# Altium footprint library NuM487_DEVB.PcbLib: 23 footprints (part 1 of 2)
Each footprint in its own frame and in the unit in brackets; x right, y up, seen from the top. Pads: shape width x height; smd on the part's side, far side on the other; paste and mask are expansions set on the pad; w line width, h text height; cw(c..) or ccw(c..) is an arc to the next point about the centre after c.
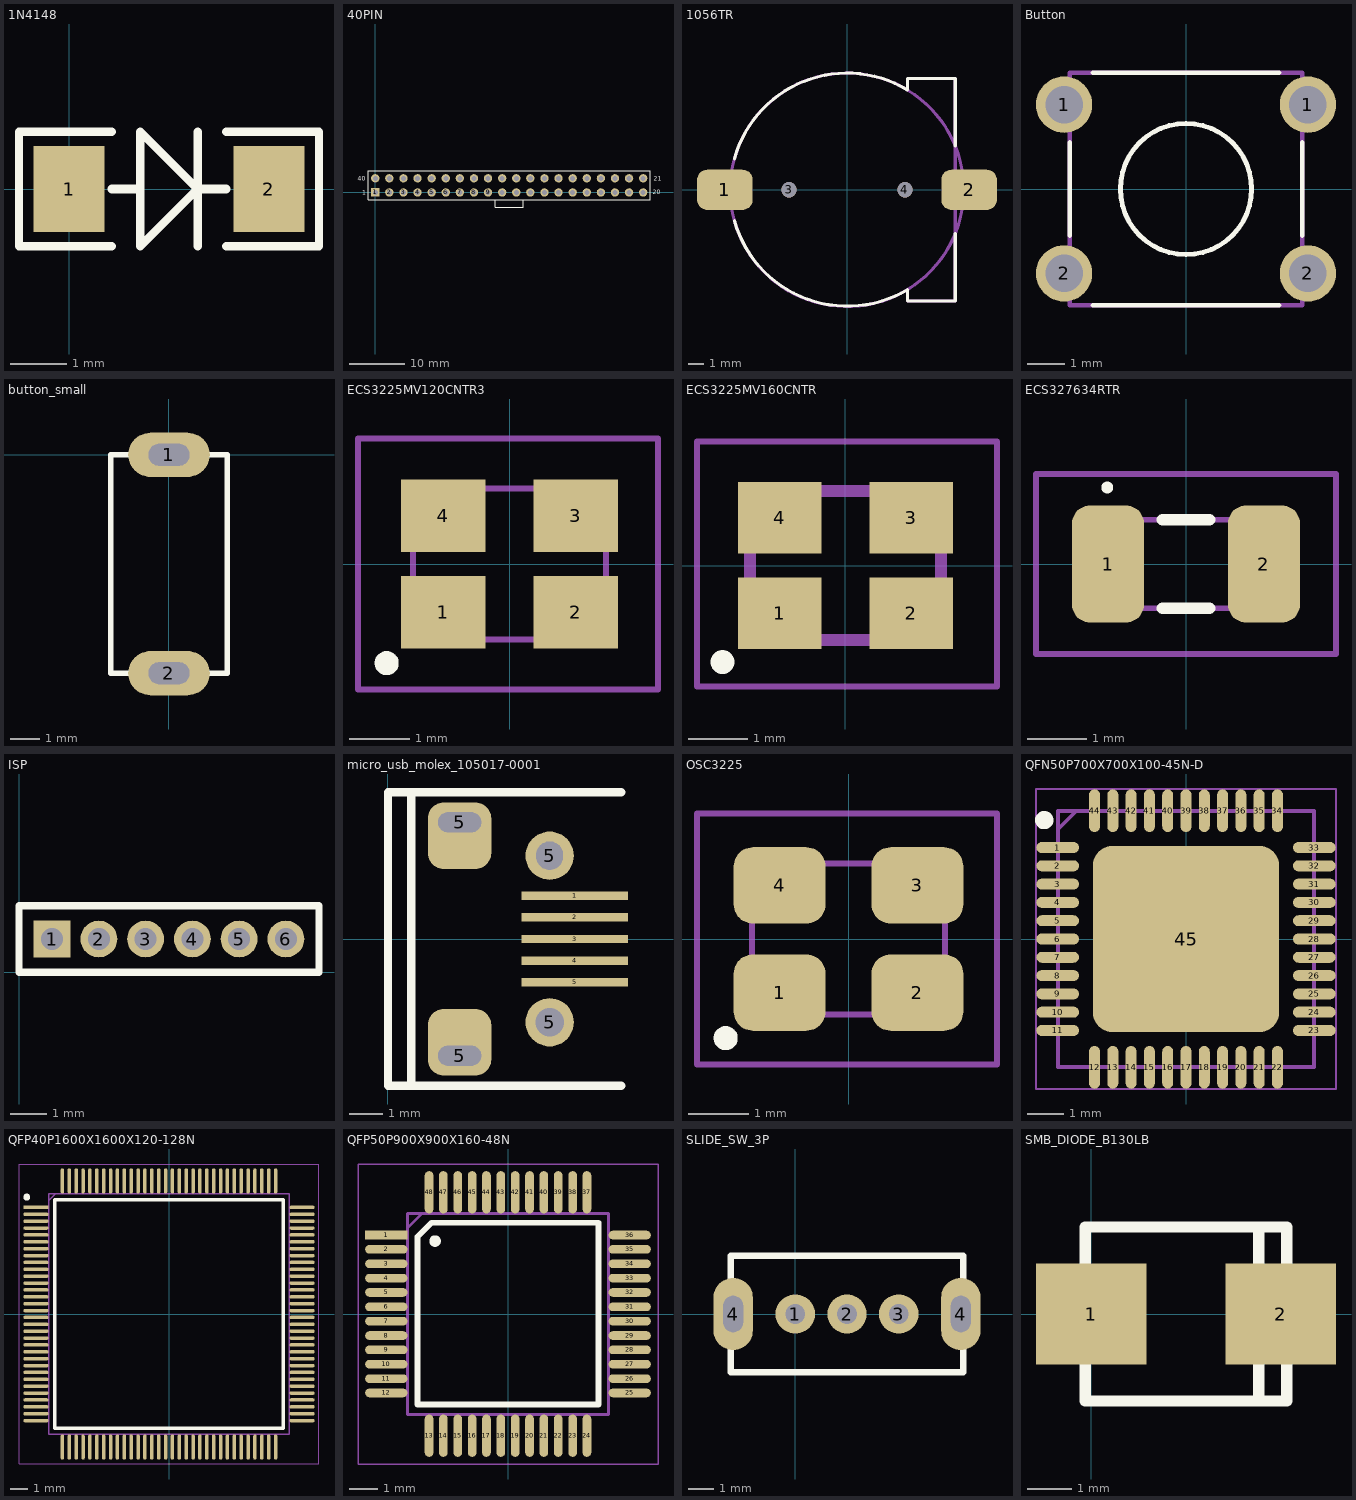
[diagram p0: the footprints below, top view; thin cyan lines are the x and y axes]

## 1N4148 [mil]
pads (2):
  rect 50x60 smd: 1(0,0) 2(140,0)
Top Overlay:
  lines w5.91: 30,-40 -35,-40 -35,40 30,40 ; 110,-40 175,-40 175,40 110,40
  lines w6: 30,0 50,0 ; 90,-40 90,40 ; 110,0 90,0 ; 90,0 50,-40 50,40 90,0
3D body "SOD-80C.STEP": height 63.13, standoff -0.14, extent -1.96,-31.63 143.71,31.64

## 40PIN [mm]
pads (40):
  rect 1.5x1.5 hole 0.9: 1(0,0)
  round 1.5 hole 0.9: 2(2.54,0) 3(5.08,0) 4(7.62,0) 5(10.16,0) 6(12.7,0) 7(15.24,0) 8(17.78,0) 9(20.32,0) 10(22.86,0) 11(25.4,0) 12(27.94,0) 13(30.48,0) 14(33.02,0) 15(35.56,0) 16(38.1,0) 17(40.64,0) 18(43.18,0) 19(45.72,0) 20(48.26,0) 21(48.26,2.54) 22(45.72,2.54) 23(43.18,2.54) 24(40.64,2.54) 25(38.1,2.54) 26(35.56,2.54) 27(33.02,2.54) 28(30.48,2.54) 29(27.94,2.54) 30(25.4,2.54) 31(22.86,2.54) 32(20.32,2.54) 33(17.78,2.54) 34(15.24,2.54) 35(12.7,2.54) 36(10.16,2.54) 37(7.62,2.54) 38(5.08,2.54) 39(2.54,2.54) 40(0,2.54)
Top Overlay:
  lines w0.2: -1.27,0.635 -1.27,3.872 ; -1.27,1.905 -1.27,-1.35 49.53,-1.35 49.53,3.872 ; -1.27,3.89 49.53,3.89 ; 21.569,-1.384 21.569,-2.661 26.62,-2.661 26.62,-1.373
  text "21" at 50.128,2.14 h0.8
  text "20" at 49.985,-0.368 h0.8
  text "1" at -2.353,-0.413 h0.8
  text "40" at -3.111,2.057 h0.8
3D body "20x2_Male_Pin_Header.STEP": height 9, standoff 0, extent -1.172,-1.25 49.628,3.75

## 1056TR [mm]
pads (4):
  rrect50% 3.6x2.6 smd: 1(-7.9,0) 2(7.9,0)
  round 1 hole 1 unplated: 3(-3.75,0) 4(3.75,0)
Top Overlay:
  lines w0.2: -7.279,-2.005 ccw(c0.025,0.062) 3.911,-6.458 ; -7.279,2.005 cw(c0,0) 3.911,6.458 ; 3.909,-6.438 3.909,-7.2 7,-7.2 7,-2.829 ; 3.909,6.459 3.909,7.2 7,7.2 7,2.829
Mechanical 13:
  circle w0.2: c0,0 r7.55
  lines w0.2: 3.909,-6.438 3.909,-7.2 7,-7.2 7,7.2 3.909,7.2 3.909,6.439

## Button [mm] "6*6mm vertical type, THT, height 5.0mm, white actuator, 260gf, Bulk"
height 5
pads (4):
  round 1.5 hole 1: 1(-3.25,2.25) 1(3.25,2.25) 2(-3.25,-2.25) 2(3.25,-2.25)
Top Overlay:
  circle w0.127: c0,0 r1.75
  lines w0.127: -3.1,-1.24 -3.1,1.24 ; -2.48,-3.1 2.48,-3.1 ; -2.48,3.1 2.48,3.1 ; 3.1,-1.24 3.1,1.24
Mechanical 13:
  lines w0.127: -3.1,-3.1 3.1,-3.1 3.1,3.1 -3.1,3.1 -3.1,-3.1
3D body "4301x60507x6.stp": height 5, standoff -3.49, extent -3.947,-3.1 3.947,3.1

## button_small [mil]
pads (2):
  oval 110.24x60 hole 30 slot 55.12 at 0 deg: 1(0,0) 2(0,-295.28)
Top Overlay:
  lines w7.87: -78.74,-295.28 -78.74,0 78.76,0 78.74,-295.28 -78.74,-295.28

## ECS3225MV120CNTR3 [mm]
pads (4):
  rect 1.4x1.2 smd: 1(-1.1,-0.8) 2(1.1,-0.8) 3(1.1,0.8) 4(-1.1,0.8)
Top Overlay:
  lines w0.2: -2.038,-1.745 ccw(c-2.038,-1.645) -2.038,-1.545 ccw(c-2.038,-1.645) -2.038,-1.745
Mechanical 13:
  lines w0.1: -1.6,-1.25 1.6,-1.25 1.6,1.25 -1.6,1.25 -1.6,-1.25
Mechanical 15:
  lines w0.1: -2.515,-2.083 2.464,-2.083 2.464,2.083 -2.515,2.083 -2.515,-2.083
3D body "ECS-3225MV-120-CN-TR3.stp": height 1.3, standoff 0, extent -1.68,-1.28 1.68,1.28

## ECS3225MV160CNTR [mm]
pads (4):
  rect 1.4x1.2 smd: 1(-1.1,-0.8) 2(1.1,-0.8) 3(1.1,0.8) 4(-1.1,0.8)
Top Overlay:
  lines w0.2: -2.162,-1.619 ccw(c-2.062,-1.619) -1.962,-1.619 ccw(c-2.062,-1.619) -2.162,-1.619
Mechanical 13:
  lines w0.2: -1.6,-1.25 1.6,-1.25 1.6,1.25 -1.6,1.25 -1.6,-1.25
Mechanical 15:
  lines w0.1: -2.489,-2.032 2.54,-2.032 2.54,2.083 -2.489,2.083 -2.489,-2.032
3D body "ECS-3225MV-160-CN-TR.stp": height 1.3, standoff 0, extent -1.68,-1.28 1.68,1.28

## ECS327634RTR [mil]
pads (2):
  rrect50% 48x78 smd: 1(-52,0) 2(52,0)
Top Overlay:
  lines w3.94: -54.49,51 ccw(c-52.52,51) -50.55,51 ccw(c-52.52,51) -54.49,51
  lines w7.87: -15.75,-29.53 15.75,-29.53 ; -15.75,29.53 15.75,29.53
Mechanical 13:
  lines w3.94: -62.99,-29.53 62.99,-29.53 62.99,29.53 -62.99,29.53 -62.99,-29.53
Mechanical 15:
  lines w3.94: -100,-60 100,-60 100,60 -100,60 -100,-60

## ISP [mm]
pads (6):
  rect 1x1 hole 0.6: 1(0.9,0.9)
  round 1 hole 0.6: 2(2.17,0.9) 3(3.44,0.9) 4(4.71,0.9) 5(5.98,0.9) 6(7.25,0.9)
Top Overlay:
  lines w0.2: 0,0 8.15,0 8.15,1.8 0,1.8 0,0

## micro_usb_molex_105017-0001 [mm]
pads (9):
  rect 3.2x0.25 smd: 1(5.6,1.3) 2(5.6,0.65) 3(5.6,0) 4(5.6,-0.65) 5(5.6,-1.3)
  rrect50% 1.9x2 hole 0.6 slot 1.3 at 0 deg copper offset 0,0.4: 5(2.15,-3.5)
  rrect50% 1.9x2 hole 0.6 slot 1.3 at 0 deg copper offset 0,-0.4: 5(2.15,3.5)
  round 1.45 hole 0.85: 5(4.85,-2.5)
  round 1.45 hole 0.85 slot 0.8 at 0 deg: 5(4.85,2.5)
Top Overlay:
  lines w0.254: 0.7,-4.4 0.7,4.4 ; 7,-4.4 0,-4.4 0,0 0,4.4 7,4.4
3D body "1050170001.stp": height 2.78, standoff -0.53, extent -0.45,-4.1 4.95,4.1

## OSC3225 [mil]
pads (4):
  rrect50% 60x50 smd: 1(-45,-35) 2(45,-35) 3(45,35) 4(-45,35)
Top Overlay:
  lines w7.87: -80.24,-68.71 cw(c-80.24,-64.77) -80.24,-60.83 cw(c-80.24,-64.77) -80.24,-68.71
Mechanical 13:
  lines w3.94: -62.99,-49.21 -62.99,49.21 62.99,49.21 62.99,-49.21 -62.99,-49.21
Mechanical 15:
  lines w3.94: -99,-82 -99,82 97,82 97,-82 -99,-82
3D body "ECS-3225MV-120-CN-TR3.stp": height 51.18, standoff 0, extent -66.14,-50.39 66.14,50.39

## QFN50P700X700X100-45N-D [mm]
pads (45):
  oval 1.168x0.3 smd: 1(-3.509,2.5) 2(-3.509,2) 3(-3.509,1.5) 4(-3.509,1) 5(-3.509,0.5) 6(-3.509,0) 7(-3.509,-0.5) 8(-3.509,-1) 9(-3.509,-1.5) 10(-3.509,-2) 11(-3.509,-2.5) 23(3.509,-2.5) 24(3.509,-2) 25(3.509,-1.5) 26(3.509,-1) 27(3.509,-0.5) 28(3.509,0) 29(3.509,0.5) 30(3.509,1) 31(3.509,1.5) 32(3.509,2) 33(3.509,2.5)
  oval 0.3x1.168 smd: 12(-2.5,-3.509) 13(-2,-3.509) 14(-1.5,-3.509) 15(-1,-3.509) 16(-0.5,-3.509) 17(0,-3.509) 18(0.5,-3.509) 19(1,-3.509) 20(1.5,-3.509) 21(2,-3.509) 22(2.5,-3.509) 34(2.5,3.509) 35(2,3.509) 36(1.5,3.509) 37(1,3.509) 38(0.5,3.509) 39(0,3.509) 40(-0.5,3.509) 41(-1,3.509) 42(-1.5,3.509) 43(-2,3.509) 44(-2.5,3.509)
  rrect20% 5.08x5.08 smd: 45(0,0)
Top Overlay:
  circle w0.25: c-3.875,3.25 r0.125
Mechanical 13:
  lines w0.1: -3.5,3 -3,3.5 ; -3.5,-3.5 3.5,-3.5 3.5,3.5 -3.5,3.5 -3.5,-3.5
Mechanical 15:
  lines w0.05: -4.1,-4.1 4.1,-4.1 4.1,4.1 -4.1,4.1 -4.1,-4.1
3D body "ATMEGA16U4-MU.stp": height 1, standoff 0, extent -3.55,-3.55 3.55,3.55

## QFP40P1600X1600X120-128N [mm]
pads (128):
  rect 1.475x0.2 smd: 1(-7.738,6.2)
  oval 1.475x0.2 smd: 2(-7.738,5.8) 3(-7.738,5.4) 4(-7.738,5) 5(-7.738,4.6) 6(-7.738,4.2) 7(-7.738,3.8) 8(-7.738,3.4) 9(-7.738,3) 10(-7.738,2.6) 11(-7.738,2.2) 12(-7.738,1.8) 13(-7.738,1.4) 14(-7.738,1) 15(-7.738,0.6) 16(-7.738,0.2) 17(-7.738,-0.2) 18(-7.738,-0.6) 19(-7.738,-1) 20(-7.738,-1.4) 21(-7.738,-1.8) 22(-7.738,-2.2) 23(-7.738,-2.6) 24(-7.738,-3) 25(-7.738,-3.4) 26(-7.738,-3.8) 27(-7.738,-4.2) 28(-7.738,-4.6) 29(-7.738,-5) 30(-7.738,-5.4) 31(-7.738,-5.8) 32(-7.738,-6.2) 65(7.738,-6.2) 66(7.738,-5.8) 67(7.738,-5.4) 68(7.738,-5) 69(7.738,-4.6) 70(7.738,-4.2) 71(7.738,-3.8) 72(7.738,-3.4) 73(7.738,-3) 74(7.738,-2.6) 75(7.738,-2.2) 76(7.738,-1.8) 77(7.738,-1.4) 78(7.738,-1) 79(7.738,-0.6) 80(7.738,-0.2) 81(7.738,0.2) 82(7.738,0.6) 83(7.738,1) 84(7.738,1.4) 85(7.738,1.8) 86(7.738,2.2) 87(7.738,2.6) 88(7.738,3) 89(7.738,3.4) 90(7.738,3.8) 91(7.738,4.2) 92(7.738,4.6) 93(7.738,5) 94(7.738,5.4) 95(7.738,5.8) 96(7.738,6.2)
  oval 0.2x1.475 smd: 33(-6.2,-7.738) 34(-5.8,-7.738) 35(-5.4,-7.738) 36(-5,-7.738) 37(-4.6,-7.738) 38(-4.2,-7.738) 39(-3.8,-7.738) 40(-3.4,-7.738) 41(-3,-7.738) 42(-2.6,-7.738) 43(-2.2,-7.738) 44(-1.8,-7.738) 45(-1.4,-7.738) 46(-1,-7.738) 47(-0.6,-7.738) 48(-0.2,-7.738) 49(0.2,-7.738) 50(0.6,-7.738) 51(1,-7.738) 52(1.4,-7.738) 53(1.8,-7.738) 54(2.2,-7.738) 55(2.6,-7.738) 56(3,-7.738) 57(3.4,-7.738) 58(3.8,-7.738) 59(4.2,-7.738) 60(4.6,-7.738) 61(5,-7.738) 62(5.4,-7.738) 63(5.8,-7.738) 64(6.2,-7.738) 97(6.2,7.738) 98(5.8,7.738) 99(5.4,7.738) 100(5,7.738) 101(4.6,7.738) 102(4.2,7.738) 103(3.8,7.738) 104(3.4,7.738) 105(3,7.738) 106(2.6,7.738) 107(2.2,7.738) 108(1.8,7.738) 109(1.4,7.738) 110(1,7.738) 111(0.6,7.738) 112(0.2,7.738) 113(-0.2,7.738) 114(-0.6,7.738) 115(-1,7.738) 116(-1.4,7.738) 117(-1.8,7.738) 118(-2.2,7.738) 119(-2.6,7.738) 120(-3,7.738) 121(-3.4,7.738) 122(-3.8,7.738) 123(-4.2,7.738) 124(-4.6,7.738) 125(-5,7.738) 126(-5.4,7.738) 127(-5.8,7.738) 128(-6.2,7.738)
Top Overlay:
  circle w0.2: c-8.275,6.8 r0.1
  lines w0.2: -6.65,-6.65 6.65,-6.65 6.65,6.65 -6.65,6.65 -6.65,-6.65
Mechanical 13:
  lines w0.1: -7,6.6 -6.6,7 ; -7,-7 7,-7 7,7 -7,7 -7,-7
Mechanical 15:
  lines w0.05: -8.725,-8.725 8.725,-8.725 8.725,8.725 -8.725,8.725 -8.725,-8.725
3D body "ATSAME54P20A-AF.stp": height 1.2, standoff 0, extent -8,-8 8,8

## QFP50P900X900X160-48N [mm]
pads (48):
  rect 1.475x0.3 smd: 1(-4.238,2.75)
  oval 1.475x0.3 smd: 2(-4.238,2.25) 3(-4.238,1.75) 4(-4.238,1.25) 5(-4.238,0.75) 6(-4.238,0.25) 7(-4.238,-0.25) 8(-4.238,-0.75) 9(-4.238,-1.25) 10(-4.238,-1.75) 11(-4.238,-2.25) 12(-4.238,-2.75) 25(4.238,-2.75) 26(4.238,-2.25) 27(4.238,-1.75) 28(4.238,-1.25) 29(4.238,-0.75) 30(4.238,-0.25) 31(4.238,0.25) 32(4.238,0.75) 33(4.238,1.25) 34(4.238,1.75) 35(4.238,2.25) 36(4.238,2.75)
  oval 0.3x1.475 smd: 13(-2.75,-4.238) 14(-2.25,-4.238) 15(-1.75,-4.238) 16(-1.25,-4.238) 17(-0.75,-4.238) 18(-0.25,-4.238) 19(0.25,-4.238) 20(0.75,-4.238) 21(1.25,-4.238) 22(1.75,-4.238) 23(2.25,-4.238) 24(2.75,-4.238) 37(2.75,4.238) 38(2.25,4.238) 39(1.75,4.238) 40(1.25,4.238) 41(0.75,4.238) 42(0.25,4.238) 43(-0.25,4.238) 44(-0.75,4.238) 45(-1.25,4.238) 46(-1.75,4.238) 47(-2.25,4.238) 48(-2.75,4.238)
Top Overlay:
  circle w0.25: c-2.54,2.54 r0.076
  lines w0.2: -3.15,-3.15 3.15,-3.15 3.15,3.175 -2.667,3.175 -3.15,2.692 -3.15,-3.15
Mechanical 13:
  lines w0.1: -3.5,3 -3,3.5 ; -3.5,-3.5 -3.5,3.5 3.5,3.5 3.5,-3.5 -3.5,-3.5
Mechanical 15:
  lines w0.05: -5.225,-5.225 -5.225,5.225 5.225,5.225 5.225,-5.225 -5.225,-5.225
3D body "DP83848CVV_NOPB.stp": height 1.6, standoff 0, extent -4.5,-4.5 4.5,4.5

## SLIDE_SW_3P [mil]
pads (5):
  round 60 hole 30: 1(0,0) 2(78.74,0) 3(157.48,0)
  oval 60x110.24 hole 30 slot 55.12 at 90 deg: 4(-94.49,0) 4(251.97,0)
Top Overlay:
  lines w10: -98.43,-88.58 -98.43,88.58 255.91,88.58 255.91,-88.58 -98.43,-88.58
3D body "Selector Switch - SS12D00.stp": height 191.04, standoff -182.96, extent -89.81,-72.53 248.19,73.47

## SMB_DIODE_B130LB [mm]
pads (2):
  rect 2.5x2.3 smd: 1(0,0) 2(4.3,0)
Top Overlay:
  lines w0.254: 3.8,-1.97 3.8,1.97 ; -0.135,-1.97 -0.135,1.97 4.435,1.97 4.435,-1.97 -0.135,-1.97
3D body "MURS160T3G.stp": height 2.47, standoff 0, extent -0.537,-1.825 4.868,1.8